# EAGLE library part HIP4080A_H_BRIDGE_MOSFET_DRIVER (library Taylor)
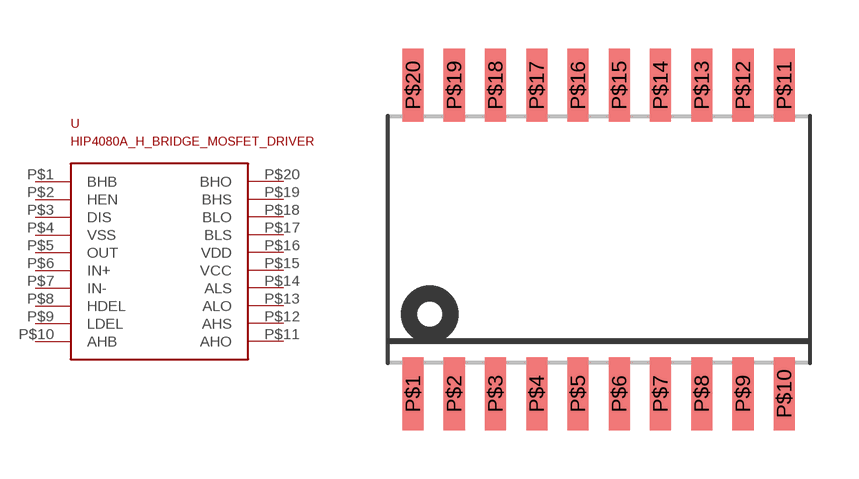
[diagram p12: symbol with the pads of SOIC-20; footprint SOIC-20]

Designator prefix -

## HIP4080A_H_BRIDGE_MOSFET_DRIVER  [SOIC-20]
P$1  BHB
P$2  HEN
P$3  DIS
P$4  VSS
P$5  OUT
P$6  IN+
P$7  IN-
P$8  HDEL
P$9  LDEL
P$10  AHB
P$11  AHO
P$12  AHS
P$13  ALO
P$14  ALS
P$15  VCC
P$16  VDD
P$17  BLS
P$18  BLO
P$19  BHS
P$20  BHO

## Footprint SOIC-20 (pad centres in mm)
smd 0.65 x 2.25: P$1 -5.715,-4.75; P$2 -4.445,-4.75; P$3 -3.175,-4.75; P$4 -1.905,-4.75; P$5 -0.635,-4.75; P$6 0.635,-4.75; P$7 1.905,-4.75; P$8 3.175,-4.75; P$9 4.445,-4.75; P$10 5.715,-4.75; P$11 5.715,4.75; P$12 4.445,4.75; P$13 3.175,4.75; P$14 1.905,4.75; P$15 0.635,4.75; P$16 -0.635,4.75; P$17 -1.905,4.75; P$18 -3.175,4.75; P$19 -4.445,4.75; P$20 -5.715,4.75